# Altium schematic symbol library Components - 30.03.22 - 09.40.SchLib: 1 symbol
Pins are listed as number, name and electrical type; pins without a type are passive.

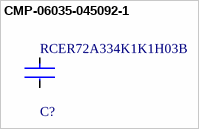
[diagram p0: symbol CMP-06035-045092-1]

## CMP-06035-045092-1
designator C?, comment RCER72A334K1K1H03B
Cap Ceramic Monolithic 330nF 100V 10% Thru-Hole Bulk; Dielectric: X7R; Lead/Base Style: Formed Leads; Lead Diameter: 0.5mm; Height: 3.5mm; Height - Seated (Max): 0.138inch; Mount: Through Hole; Voltage Rating (DC): 100V; Resistor Type: Ceramic; Length: 0.157inch; Width: 2.5mm; Max Operating Temperature: 125°C; Package Quantity: 500; Min Operating Temperature: -55°C; Termination: Radial; Lead Pitch: 0.197inch; Capacitance: 330nF; Voltage Rating: 100V; Case/Package: Radial; Packaging: Bulk; Tolerance: 10%; Ratings: AEC-Q200
footprint FP-RCE1K1-2_5-MFG
pins: 1, 2